# EAGLE library part SIM800V2 (library sim800v2)
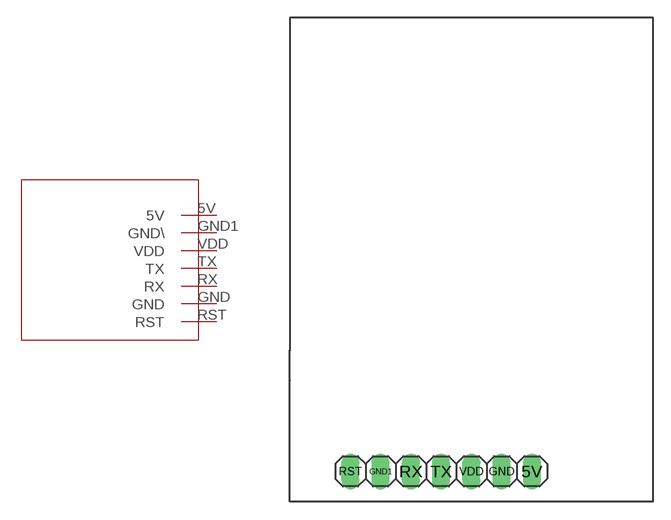
[diagram p0: symbol with the pads of SIM800V2; footprint SIM800V2]

Designator prefix -

## SIM800V2  [SIM800V2]
5V  5V
GND  GND
GND1  GND\
RST  RST
RX  RX
TX  TX
VDD  VDD

## Footprint SIM800V2 (pad centres in mm)
PIN HEADER
drill 1.016 long: 5V 7.62,0; GND 5.08,0; GND1 -5.08,0; RST -7.62,0; RX -2.54,0; TX 0,0; VDD 2.54,0